# Altium schematic symbol library MBR3045.Schlib: 1 symbol
Pins are listed as number, name and electrical type; pins without a type are passive.

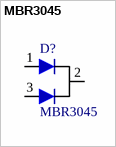
[diagram p0: symbol MBR3045]

## MBR3045
designator D?
Power Schottky; Manufacturer: VISHAY; Designer: Mostafa Yaghmaei; Link: https://www.aliexpress.com/item/100PCS-MBR2045CT-MBR2045-MBR2045C-TO220/32576607386.html?spm=2114.01010208.3.1.vWJGYC&ws_ab_test=searchweb0_0,searchweb201602_4_10065_10068_10084_10083_10080_10082_10081_10060_10061_10062_10056_10055_10054_10059_10099_10078_10079_427_10073_10103_10102_10096_10052_10050_10051,searchweb201603_4&btsid=59d3c580-949c-4e8a-9059-0fcae782ffc8; Link: http://www.tme.eu/en/details/mbr2045ct-e3_45/tht-universal-diodes/vishay/; Link: http://www.digikey.com/product-detail/en/diodes-incorporated/MBR2045CTF-G1/MBR2045CTF-G1DI-ND/5453096; Part. No: MBR3045
footprint TO-220 AB (Epoxy meets UL94, V0-Design:Abbas Basereh)
pins: 1 A1 (power), 2 K (power), 3 A2 (power)